# Altium schematic symbol library AT86RF215IQ-ZU.SchLib: 2 symbols
Pins are listed as number, name and electrical type; pins without a type are passive.

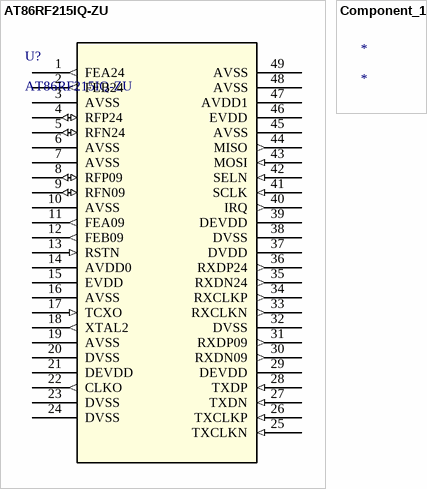
[diagram p0: symbols AT86RF215IQ-ZU to Component_1]

## AT86RF215IQ-ZU
designator U?
No Description Available; Mfr_Name: Microchip; Copyright: Copyright (C) 2022 Ultra Librarian. All rights reserved.; Manufacturer_Part_Number: AT86RF215IQ-ZU; RefDes: RefDes; Type: DEV
footprint QFN48_7X7_PQ_MCH
pins: 1 FEA24 (out), 2 FEB24 (out), 3 AVSS, 4 RFP24 (io), 5 RFN24 (io), 6 AVSS, 7 AVSS, 8 RFP09 (io), 9 RFN09 (io), 10 AVSS, 11 FEA09 (out), 12 FEB09 (out), 13 RSTN (in), 14 AVDD0 (power), 15 EVDD (power), 16 AVSS, 17 TCXO (in), 18 XTAL2 (out), 19 AVSS, 20 DVSS, 21 DEVDD (power), 22 CLKO (out), 23 DVSS, 24 DVSS, 25 TXCLKN (in), 26 TXCLKP (in), 27 TXDN (in), 28 TXDP (in), 29 DEVDD (power), 30 RXDN09 (out), 31 RXDP09 (out), 32 DVSS, 33 RXCLKN (out), 34 RXCLKP (out), 35 RXDN24 (out), 36 RXDP24 (out), 37 DVDD (power), 38 DVSS, 39 DEVDD (power), 40 IRQ (out), 41 SCLK (in), 42 SELN (in), 43 MOSI (in), 44 MISO (out), 45 AVSS, 46 EVDD (power), 47 AVDD1 (power), 48 AVSS, 49 AVSS

## Component_1
designator *